# Altium schematic symbol library AOZ1360AIL.SchLib: 1 symbol
Pins are listed as number, name and electrical type; pins without a type are passive.

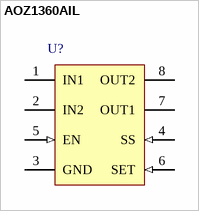
[diagram p0: symbol AOZ1360AIL]

## AOZ1360AIL
designator U?
28V Programmable Current-Limited Load Switch; Manufacturer: Alpha and Omega Semiconductor; PartNumber: AOZ1360AIL; VCC(Max)(V): 28; Peak Output Current(A): 3.4; Driver Configuration: High Side; No. of Outputs: 1; Input Threshold: CMOS, TTL; VCC(Min)(V): 5.5; ComponentLink1URL: http://aosmd.com/res/data_sheets/AOZ1360AIL.pdf; ComponentLink1Description: Datasheet; PackageDescription: 8-Pin Plastic Small Outline Integrated Circuit, 4.9 x 3.9 mm, Pitch 1.27 mm Pitch; Mounting Technology: Surface Mount; LCSC Part #: C146821
footprint SOIC127P600X175-8N (SOIC, 8-Leads, Body 4,90x3,90mm, Pitch 1,27mm, IPC Medium Density)
pins: 1 IN1 (power) "P-channel MOSFET source.", 2 IN2 (power) "cf. IN1", 3 GND (power) "...", 4 SS (in) "Soft-Start Pin. Connect a capacitor from SS to GND to set the soft-start time. Connect SS to IN to set to the default soft-start time of 100us.", 5 EN (in) "Enable Input.", 6 SET (in) "Current Limit Set Pin. Connect a resistor from SET to GND to set the switch current limit.", 7 OUT1 (power) "P-channel MOSFET Drain. Connect a capacitor with 0.1 μF or above from OUT to GND.", 8 OUT2 (power) "cf. OUT1"